# EAGLE library part ARDUINO_TRINKET (library trinketLib)
Microcontroller package Arduino Trinket by Adafruit. 3.3V variety.
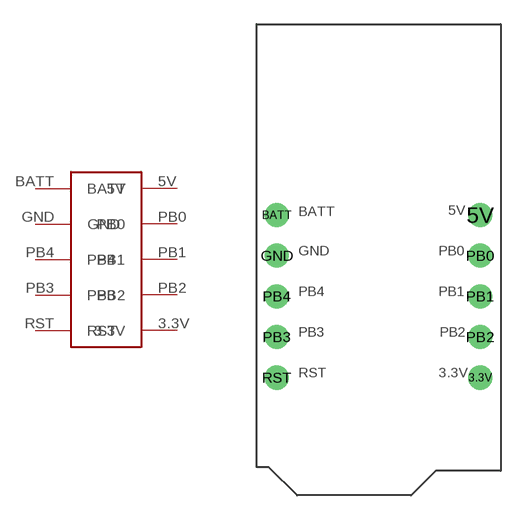
[diagram p0: symbol with the pads of ARDUINO_TRINKET; footprint ARDUINO_TRINKET]

Designator prefix MCU

## ARDUINO_TRINKET  [ARDUINO_TRINKET]
3.3V  3.3V
5V  5V
BATT  BATT
GND  GND
PB0  PB0
PB1  PB1
PB2  PB2
PB3  PB3
PB4  PB4
RST  RST

## Footprint ARDUINO_TRINKET (pad centres in mm)
drill 1: 3.3V 6.35,-5.08; 5V 6.35,5.08; BATT -6.35,5.08; GND -6.35,2.54; PB0 6.35,2.54; PB1 6.35,0; PB2 6.35,-2.54; PB3 -6.35,-2.54; PB4 -6.35,0; RST -6.35,-5.08